# Altium schematic symbol library Safety_Lock.SCHLIB: 42 symbols
Pins are listed as number, name and electrical type; pins without a type are passive.

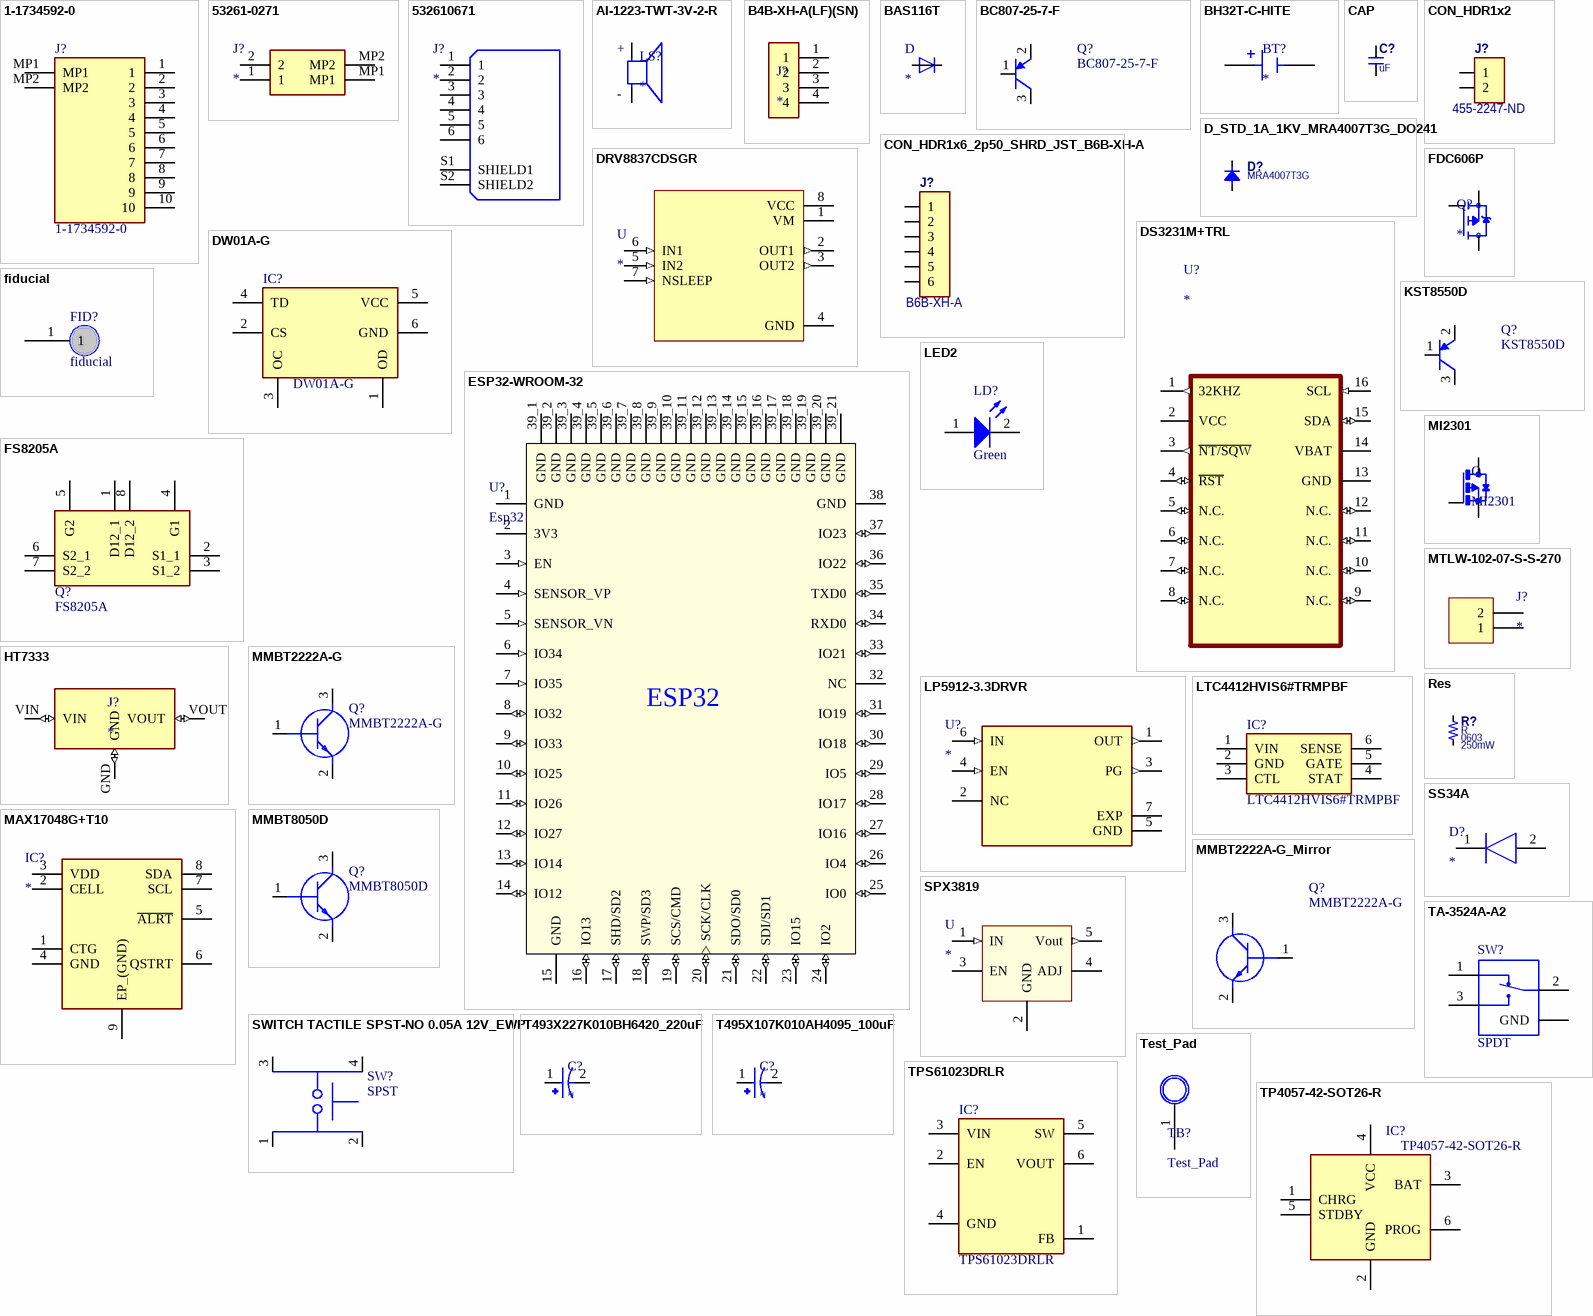
[diagram p0: symbols 1-1734592-0 to TPS61023DRLR]

## 1-1734592-0
designator J?
Connector; Manufacturer_Name: TE Connectivity; Datasheet Link: https://www.te.com/commerce/DocumentDelivery/DDEController?Action=showdoc&DocId=Customer+Drawing%7F1734592%7FC%7Fpdf%7FEnglish%7FENG_CD_1734592_C_C_1734592.pdf%7F1-1734592-8; Height: 2.3mm; Manufacturer_Part_Number: 1-1734592-0; Mouser Part Number: 571-1-1734592-0; Mouser Price/Stock: https://www.mouser.co.uk/ProductDetail/TE-Connectivity/1-1734592-0?qs=sXy4Dx%2FMQpOH8ogf8%2FvwBg%3D%3D; Arrow Part Number: 1-1734592-0; Arrow Price/Stock: https://www.arrow.com/en/products/1-1734592-0/te-connectivity
footprint 117345920
pins: 1, 2, 3, 4, 5, 6, 7, 8, 9, 10, MP1, MP2

## 53261-0271
designator J?
Connector; Manufacturer_Name: Molex; Manufacturer_Part_Number: 53261-0271; Datasheet Link: https://www.molex.com/pdm_docs/sd/532610271_sd.pdf; Height: 3.65mm; Mouser Part Number: 538-53261-0271; Mouser Price/Stock: https://www.mouser.co.uk/ProductDetail/Molex/53261-0271?qs=%252B72YyncTwW%252B8%252BBjraxGf3A%3D%3D; Arrow Part Number: 53261-0271; Arrow Price/Stock: https://www.arrow.com/en/products/53261-0271/molex?region=nac
footprint 532610271
pins: 1, 2, MP1, MP2

## 532610671
designator J?
Conn Shrouded Header (4 Sides) HDR 6 POS 1.25mm Solder RA Side Entry SMD PicoBladeâ„¢ T/R; MF: Molex; MP: 532610671; SnapEDA_Link: https://www.snapeda.com/parts/532610671/Molex/view-part/6379096/?ref=snap; Value: *; Purchase-URL: https://pricing.snapeda.com/search/part/532610671/?ref=eda; Check_prices: https://www.snapeda.com/parts/532610671/Molex/view-part/6379096/?ref=eda; Digi-Key_Part_Number: WM7624CT-ND; Package: None
footprint MOLEX_532610671
pins: 1, 2, 3, 4, 5, 6, S1 SHIELD1, S2 SHIELD2

## AI-1223-TWT-3V-2-R
designator LS?
AUDIO INDICATOR 82 DB 3 VDC 2300 HZ; MF: PUI Audio,; MP: AI-1223-TWT-3V-2-R; SnapEDA_Link: https://www.snapeda.com/parts/AI-1223-TWT-3V-2-R/PUI%20Audio,%20Inc./view-part/548758/?ref=snap; Availability: In Stock; Price: None; Purchase-URL: https://pricing.snapeda.com/search/part/AI-1223-TWT-3V-2-R/?ref=eda; Check_prices: https://www.snapeda.com/parts/AI-1223-TWT-3V-2-R/PUI%20Audio,%20Inc./view-part/548758/?ref=eda; Package: None; Value: *
footprint XDCR_AI-1223-TWT-3V-2-R
pins: N, P
text: +; -

## B4B-XH-A(LF)(SN)
designator J?
Connector Header Through Hole 4 position 0.098 (2.50mm); MF: JST Sales; MP: B4B-XH-A(LF)(SN); Check_prices: https://www.snapeda.com/parts/B4B-XH-A(LF)(SN)/JST%20Sales%20America%20Inc./view-part/447494/?ref=eda; Purchase-URL: https://pricing.snapeda.com/search/part/B4B-XH-A(LF)(SN)/?ref=eda; SnapEDA_Link: https://www.snapeda.com/parts/B4B-XH-A(LF)(SN)/JST%20Sales%20America%20Inc./view-part/447494/?ref=snap; Price: None; Value: *; Package: None; Availability: Warning
footprint JST_B4B-XH-A(LF)(SN)
pins: 1, 2, 3, 4

## BAS116T
designator D
Diode Standard 75V 200mA Surface Mount SC-75, SOT-416; MP: BAS116; MF: NXP Semiconductors; Package: SOT-23-3 NXP Semiconductors; Availability: Bad; SnapEDA_Link: https://www.snapeda.com/parts/BAS116/NXP%20Semiconductors/view-part/188045/?ref=snap; Value: *; Price: None
footprint SOT416
pins: 1 A, 3 K

## BC807-25-7-F
designator Q?
Trans GP BJT PNP 45V 0.5A 350mW Automotive 3-Pin SOT-23 T/R; Manufacturer: Diodes; Max Power Dissipation: 310mW; Max Collector Current: 500mA; Number of Elements: 1; Frequency: 100MHz; Emitter Base Voltage (VEBO): 5V; Collector Emitter Saturation Voltage: -700mV; Element Configuration: Single; Collector-emitter Voltage-Max: 700mV; Supplier 1: Digi-Key; Manufacturer Part Number: BC807-25-7-F; RoHS: Yes; Category: BJTs; Stock 1: 1770; Pricing 1: 1=0.37000, 10=0.30000, 100=0.15890, 500=0.10454, 1000=0.07109 (USD); Mount: Surface Mount; Case/Package: SOT-23; Number of Pins: 3; Weight: 0.000282oz; Contact Plating: Tin,Matte; Min Operating Temperature: -65°C; Max Operating Temperature: 150°C; Collector Emitter Voltage (VCEO): 45V; Packaging: Tape and Reel; Collector Emitter Breakdown Voltage: 45V; Polarity: PNP; Package Quantity: 3000; Transition Frequency: 100MHz; Max Breakdown Voltage: 45V; Power Dissipation: 310mW; Gain Bandwidth Product: 100MHz; Series: -; Length: 3.05mm; Width: 1.4mm; Height: 1mm; REACH SVHC: No SVHC; RoHS Compliant: Yes; Lead Free: Lead Free; ComponentLink1URL: https://datasheet.ciiva.com/6360/ds11208-6360807.pdf?src-supplier=Digi-Key; ComponentLink1Description: https://datasheet.ciiva.com/6360/ds11208-6360807.pdf?src-supplier=Digi-Key; ComponentLink2URL: https://datasheet.ciiva.com/16614/ds11208-16614428.pdf?src-supplier=Avnet+Europe; ComponentLink2Description: https://datasheet.ciiva.com/16614/ds11208-16614428.pdf?src-supplier=Avnet+Europe; Supplier Part Number 1: BC807-25FDICT-ND
footprint SOT95P240X115-3N
pins: 1 Base, 2 Emitter, 3 Collector

## BH32T-C-HITE
designator BT?
GPCR2032 Holder Features high temperature resistant plastic; MP: BH32T-C-HITE; Package: None; Price: None; Value: *; Availability: Unavailable
footprint BAT_BH32T-C-HITE
pins: NEG, POS

## CAP
designator C?, comment uF
CAP; Manufacturer: TDK EPCOS; Manufacturer Part Number: B37941K9105K62; Capacitance: 1uF; Voltage Rating: 16V; Tolerance: 10%; ComponentLink1URL: https://datasheet.ciiva.com/13389/upy-gphc-y5v-6-3v-to-50v-5-13389978.pdf?src-supplier=Mouser; ComponentLink1Description: Datasheet; Supplier 1: Digi-Key; RoHS: Yes; Category: Ceramic Capacitors; Mount: Surface Mount; Case/Package: 0805; Case Code (Metric): 2012; Case Code (Imperial): 0805; Min Operating Temperature: -55°C; Max Operating Temperature: 125°C; Package Quantity: 3000; Packaging: Tape and Reel; Voltage Rating (DC): 16V; Length: 0.079inch; Width: 0.049inch; Height: 1.35mm; Thickness: 0.049inch; Ratings: AEC-Q200; Lead Free: Lead Free; ComponentLink2URL: http://components.arrow.com/part/dataview/0323_01879911?src-supplier=Arrow+Europe; ComponentLink2Description: http://components.arrow.com/part/dataview/0323_01879911?src-supplier=Arrow+Europe; ComponentLink3URL: https://media.digikey.com/pdf/Data%20Sheets/Epcos%20PDFs/B37872K_B37941K_Series.pdf?src-supplier=Digi-Key; ComponentLink3Description: https://media.digikey.com/pdf/Data%20Sheets/Epcos%20PDFs/B37872K_B37941K_Series.pdf?src-supplier=Digi-Key; Supplier Part Number 1: 495-1935-1-ND
footprint 0603-C (Capacitor 0603 Nominal Density)
footprint 0805-C (Capacitor 0805 Nominal Density)
footprint 1206-C (Capacitor 1206 Nominal Density)
pins: 1, 2

## CON_HDR1x2
designator J?, comment 455-2247-ND
ComponentLink1URL: https://www.jst-mfg.com/product/pdf/eng/eXH.pdf; ComponentLink1Description: Datasheet
footprint CON_HDR1x2 (Connector 2-Way 2.50mm Pitch Right Angle Shrouded JST S2B-XH-A)
pins: 1, 2

## CON_HDR1x6_2p50_SHRD_JST_B6B-XH-A
designator J?, comment B6B-XH-A
CONN HEADER VERT 6POS 2.5MM; Manufacturer: JST; Manufacturer Part Number: B6BXHA(LF)(SN); Contact Resistance: 20mR; Current Rating: 3A; Number of Positions: 6; Voltage Rating (AC): 250V; Insulation Resistance: 1GR; Connector Type: Male Pin; Wire/Cable Gauge: 22AWG; ComponentLink4Description: Datasheet; ComponentLink4URL: http://www.jst-mfg.com/product/pdf/eng/eXH.pdf; Supplier 1: Digi-Key; RoHS: Yes; Category: FFC / FPC; Stock 1: 19126; Pricing 1: 1=0.270000, 10=0.258000, 100=0.180800, 500=0.154940, 1000=0.129120, 5000=0.110680, 10000=0.103300 (USD); Mount: Through Hole; Contact Plating: Tin,Lead,Copper; Contact Material: Brass; Color: Natural; Housing Color: White; Housing Material: Polyamide; Min Operating Temperature: -25°C; Max Operating Temperature: 85°C; Termination: Press-Fit; Package Quantity: 500; Packaging: Bulk; Number of Rows: 1; Voltage Rating: 250V; Number of Contacts: 6; Max Current Rating: 3A; Max Voltage Rating (AC): 250V; Max Voltage Rating (DC): 250V; Orientation: Straight; Length: 17.4mm; Depth: 5.75mm; Pitch: 2.5mm; Lead Pitch: 2.5mm; REACH SVHC: No SVHC; Lead Free: Lead Free; Supplier Part Number 1: 455-2271-ND
footprint CON_HDR1x6_2p50_SHRD_JST-B6B-XH-A (Connector 6-Way 2.50mm Pitch Right Angle Shrouded JST-B6B-XH-A)
pins: 1, 2, 3, 4, 5, 6

## D_STD_1A_1KV_MRA4007T3G_DO241
designator D?, comment MRA4007T3G
Diode; Rectifier; Standard; Vr 1000V; If 1A; Pkg SMA; Vf 1.04V; Tj +175degc; Cs 30A; Manufacturer: ON Semiconductor; Forward Voltage: 2V; Max Reverse Current: 10uA; Max Repetitive Reverse Voltage (Vrrm): 1kV; Element Configuration: Single; Supplier 1: Digi-Key; Manufacturer Part Number: MRA4007T3G; RoHS: Yes; Category: Rectifier Diodes; Stock 1: 61431; Pricing 1: 1=0.28000, 10=0.19200, 100=0.09590, 500=0.05858, 1000=0.04260, 2000=0.04047 (USD); Case/Package: SMA; Number of Pins: 2; Contact Plating: Tin,Matte; Min Operating Temperature: -55°C; Max Operating Temperature: 175°C; Package Quantity: 1; Max Surge Current: 30A; Forward Current: 1A; Packaging: Tape and Reel; Average Rectified Current: 1A; Max Forward Surge Current (Ifsm): 30A; Peak Non-Repetitive Surge Current: 30A; Polarity: Standard; Voltage Rating (DC): 1kV; Current Rating: 1A; Output Current: 1A; Max Reverse Voltage (DC): 1kV; Reverse Voltage: 1kV; Length: 4.32mm; Height: 2mm; Width: 2.6mm; Radiation Hardening: No; REACH SVHC: No SVHC; Lead Free: Lead Free; ComponentLink1URL: https://www.onsemi.com/pub/Collateral/MRA4003T3-D.PDF; ComponentLink1Description: Datasheet; Supplier Part Number 1: MRA4007T3GOSCT-ND
footprint D_SMA_DO214AC (Molded Diode, 2-Leads, Body 4.3x2.6mm, IPC Medium Density)
pins: A "Anode", K "Cathode"

## DRV8837CDSGR
designator U
11-V, 1-A H-bridge motor driver 8-WSON -40 to 85; MF: Texas Instruments; MP: DRV8837CDSGR; Mouser-Purchase-URL: https://snapeda.com/shop?store=Mouser&id=617854; Value: *; DigiKey-Purchase-URL: https://snapeda.com/shop?store=DigiKey&id=617854; Package: WSON-8 Texas Instruments; Texas_Instruments-Purchase-URL: https://snapeda.com/shop?store=Texas+Instruments&id=617854; Price: None; SnapEDA_Link: https://www.snapeda.com/parts/DRV8837CDSGR/Texas%20Instruments/view-part/617854/?ref=snap; Availability: Good
footprint SON50P200X200X80-9N
pins: 1 VM (power), 2 OUT1 (out), 3 OUT2 (out), 4 GND (power), 5 IN2 (in), 6 IN1 (in), 7 NSLEEP (in), 8 VCC (power)

## DS3231M+TRL
designator U?
MP: DS3231M+TRL; Package: None; Price: None; Value: *; Availability: Unavailable
footprint SOIC127P1032X265-16N (Footprint not found)
pins: 1 32KHZ (out), 2 VCC (power), 3 ~{NT/SQW} (out), 4 ~{RST} (io), 5 N.C. (io), 6 N.C. (io), 7 N.C. (io), 8 N.C. (io), 9 N.C. (io), 10 N.C. (io), 11 N.C. (io), 12 N.C. (io), 13 GND (power), 14 VBAT (power), 15 SDA (io), 16 SCL (in)

## DW01A-G
designator IC?
Integrated Circuit; Manufacturer_Name: Fortune Semiconductor Corporation; Datasheet Link: http://acoptex.com/uploads/DW01A.pdf; Height: 1.35mm; Manufacturer_Part_Number: DW01A-G
footprint SOT95P280X135-6N
pins: 1 OD, 2 CS, 3 OC, 4 TD, 5 VCC, 6 GND

## ESP32-WROOM-32
designator U?, comment Esp32
Bluetooth, WiFi Transceiver Module 2.4GHz ~ 2.5GHz Surface Mount; MF: Espressif Systems; MP: ESP32-WROOM-32; Package: Module Espressif Systems; Digi-Key_Part_Number: 1904-1010-1-ND; Digi-Key_Purchase_URL: https://www.digikey.com/product-detail/en/espressif-systems/ESP32-WROOM-32/1904-1010-1-ND/8544305?utm_source=snapeda&utm_medium=aggregator&utm_campaign=symbol; Value: *; SnapEDA_Link: https://www.snapeda.com/parts/ESP32-WROOM-32/Espressif%20Systems/view-part/2753322/?ref=snap
footprint MODULE_ESP32-WROOM-32
pins: 1 GND (power), 2 3V3 (power), 3 EN (in), 4 SENSOR_VP (in), 5 SENSOR_VN (in), 6 IO34 (in), 7 IO35 (in), 8 IO32 (io), 9 IO33 (io), 10 IO25 (io), 11 IO26 (io), 12 IO27 (io), 13 IO14 (io), 14 IO12 (io), 15 GND (power), 16 IO13 (io), 17 SHD/SD2 (io), 18 SWP/SD3 (io), 19 SCS/CMD (io), 20 SCK/CLK (io), 21 SDO/SD0 (io), 22 SDI/SD1 (io), 23 IO15 (io), 24 IO2 (io), 25 IO0 (io), 26 IO4 (io), 27 IO16 (io), 28 IO17 (io), 29 IO5 (io), 30 IO18 (io), 31 IO19 (io), 32 NC, 33 IO21 (io), 34 RXD0 (io), 35 TXD0 (io), 36 IO22 (io), 37 IO23 (io), 38 GND (power), 39_1 GND (power), 39_2 GND (power), 39_3 GND (power), 39_4 GND (power), 39_5 GND (power), 39_6 GND (power), 39_7 GND (power), 39_8 GND (power), 39_9 GND (power), 39_10 GND (power), 39_11 GND (power), 39_12 GND (power), 39_13 GND (power), 39_14 GND (power), 39_15 GND (power), 39_16 GND (power), 39_17 GND (power), 39_18 GND (power), 39_19 GND (power), 39_20 GND (power), 39_21 GND (power)
text: ESP32

## FDC606P
designator Q?
P-Channel 12V 6A (Ta) 1.6W (Ta) Surface Mount SuperSOTâ„¢-6; MF: ON Semiconductor; MP: FDC606P; Price: None; Purchase-URL: https://pricing.snapeda.com/search/part/FDC606P/?ref=eda; Value: *; Availability: Good; Check_prices: https://www.snapeda.com/parts/FDC606P/ON%20Semiconductor/view-part/2501971/?ref=eda; SnapEDA_Link: https://www.snapeda.com/parts/FDC606P/ON%20Semiconductor/view-part/2501971/?ref=snap; Package: TSOT-23-6 ON Semiconductor
footprint SUPERSOT-6
pins: 1 D, 2 D, 3 G, 4 S, 5 D, 6 D

## fiducial
designator FID?
footprint Fiducial
pins: 1

## FS8205A
designator Q?
Transistor; Manufacturer_Name: SII Semiconductor; Datasheet Link: http://www.ic-fortune.com/upload/Download/FS8205A-DS-12_EN.pdf; Height: 1.2mm; Manufacturer_Part_Number: FS8205A
footprint SOP65P640X120-8N
pins: 1 D12_1, 2 S1_1, 3 S1_2, 4 G1, 5 G2, 6 S2_1, 7 S2_2, 8 D12_2

## HT7333
designator J?
MF: Holtek Semiconductor; MP: HT7333; Availability: In Stock; Price: None; Package: None; Value: *
footprint SOT89
pins: GND (io), VIN (io), VOUT (io)

## KST8550D
designator Q?
Trans GP BJT PNP 45V 0.5A 350mW Automotive 3-Pin SOT-23 T/R; Manufacturer: Diodes; Max Power Dissipation: 310mW; Max Collector Current: 500mA; Number of Elements: 1; Frequency: 100MHz; Emitter Base Voltage (VEBO): 5V; Collector Emitter Saturation Voltage: -700mV; Element Configuration: Single; Collector-emitter Voltage-Max: 700mV; Supplier 1: Digi-Key; Manufacturer Part Number: KST8550D; RoHS: Yes; Category: BJTs; Stock 1: 1770; Pricing 1: 1=0.37000, 10=0.30000, 100=0.15890, 500=0.10454, 1000=0.07109 (USD); Mount: Surface Mount; Case/Package: SOT-23; Number of Pins: 3; Weight: 0.000282oz; Contact Plating: Tin,Matte; Min Operating Temperature: -65°C; Max Operating Temperature: 150°C; Collector Emitter Voltage (VCEO): 45V; Packaging: Tape and Reel; Collector Emitter Breakdown Voltage: 45V; Polarity: PNP; Package Quantity: 3000; Transition Frequency: 100MHz; Max Breakdown Voltage: 45V; Power Dissipation: 310mW; Gain Bandwidth Product: 100MHz; Series: -; Length: 3.05mm; Width: 1.4mm; Height: 1mm; REACH SVHC: No SVHC; RoHS Compliant: Yes; Lead Free: Lead Free; ComponentLink1URL: https://datasheet.lcsc.com/lcsc/1912111437_KEXIN-KST8550D_C382284.pdf; ComponentLink1Description: https://datasheet.ciiva.com/6360/ds11208-6360807.pdf?src-supplier=Digi-Key; ComponentLink2URL: https://datasheet.lcsc.com/lcsc/1912111437_KEXIN-KST8550D_C382284.pdf; ComponentLink2Description: https://datasheet.ciiva.com/16614/ds11208-16614428.pdf?src-supplier=Avnet+Europe; Supplier Part Number 1: BC807-25FDICT-ND
footprint SOT23
pins: 1 Base, 2 Emitter, 3 Collector

## LED2
designator LD?, comment Green
Typical RED, GREEN, YELLOW, AMBER GaAs LED; Published: 8-Jun-2000; Revision: July-2002: Re-released for DXP Platform.; Publisher: Altium Limited
footprint 0603D
pins: 1 A, 2 K

## LP5912-3.3DRVR
designator U?
500-mA, low-noise, low-IQ, low-dropout voltage regulator with reverse current protection 6-WSON -40 to 125; MP: LP5912-3.3DRVR; MF: Texas Instruments; SnapEDA_Link: https://www.snapeda.com/parts/LP5912-3.3DRVR/Texas%20Instruments/view-part/510369/?ref=snap; Value: *; Texas_Instruments-Purchase-URL: https://snapeda.com/shop?store=Texas+Instruments&id=510369; Package: WSON-6 Texas Instruments; DigiKey-Purchase-URL: https://snapeda.com/shop?store=DigiKey&id=510369; Digi-Key_Part_Number: 296-47214-1-ND; Mouser-Purchase-URL: https://snapeda.com/shop?store=Mouser&id=510369
footprint SON65P200X200X80-7N
pins: 1 OUT (out), 2 NC, 3 PG (out), 4 EN (in), 5 GND (power), 6 IN (in), 7 EXP (power)

## LTC4412HVIS6#TRMPBF
designator IC?
Integrated Circuit; Manufacturer_Name: Linear Technology; Datasheet Link: https://datasheet.datasheetarchive.com/originals/dk/DKDS-14/267243.pdf; Height: 1mm; Manufacturer_Part_Number: LTC4412HVIS6#TRMPBF; Mouser Part Number: 584-C4412HVIS6TRMPBF; Mouser Price/Stock: https://www.mouser.co.uk/ProductDetail/Analog-Devices-Linear-Technology/LTC4412HVIS6TRMPBF?qs=hVkxg5c3xu%2F0qD9zc%2Fd4vw%3D%3D; Arrow Part Number: LTC4412HVIS6#TRMPBF; Arrow Price/Stock: https://www.arrow.com/en/products/ltc4412hvis6trmpbf/linear-technology
footprint SOT95P280X100-6N
pins: 1 VIN, 2 GND, 3 CTL, 4 STAT, 5 GATE, 6 SENSE

## MAX17048G+T10
designator IC?
Integrated Circuit; Manufacturer_Name: Maxim Integrated; Manufacturer_Part_Number: MAX17048G+T10; Datasheet Link: https://datasheets.maximintegrated.com/en/ds/MAX17048-MAX17049.pdf; Height: 0.8mm; Mouser Part Number: 700-MAX17048G+T10; Mouser Price/Stock: https://www.mouser.co.uk/ProductDetail/Maxim-Integrated/MAX17048G%2bT10?qs=D7PJwyCwLAoGnnn8jEPRBQ%3D%3D; Arrow Part Number: MAX17048G+T10; Arrow Price/Stock: https://www.arrow.com/en/products/max17048gt10/maxim-integrated?region=nac
footprint SON50P200X200X80-9N-D (Footprint not found)
pins: 1 CTG, 2 CELL, 3 VDD, 4 GND, 5 ~{ALRT}, 6 QSTRT, 7 SCL, 8 SDA, 9 EP_(GND)

## MI2301
designator Q
Datasheet: http://www.szjuquan.com/upload_files/qb_sell_/pdf/MI2301.pdf; Availability: Unavailable; Price: None; MP: MI2301; Value: *
footprint SOT23
pins: 1 G, 2 S, 3 D

## MMBT2222A-G
designator Q?
Transistor BJT NPN; Manufacturer_Name: Comchip Technology; Datasheet Link: http://www.comchiptech.com/admin/files/product/MMBT2222A-G%20RevB.pdf; Height: 1.15mm; Manufacturer_Part_Number: MMBT2222A-G; Mouser Part Number: 750-MMBT2222A-G; Mouser Price/Stock: https://www.mouser.co.uk/ProductDetail/Comchip-Technology/MMBT2222A-G?qs=2qJf6qQ4IOIM%2FSE9iCL8gQ%3D%3D; Arrow Part Number: MMBT2222A-G; Arrow Price/Stock: https://www.arrow.com/en/products/mmbt2222a-g/comchip-technology
footprint SOT95P240X115-3N
pins: 1 B, 2 E, 3 C

## MMBT2222A-G_Mirror
designator Q?, comment MMBT2222A-G
Transistor BJT NPN; Manufacturer_Name: Comchip Technology; Datasheet Link: http://www.comchiptech.com/admin/files/product/MMBT2222A-G%20RevB.pdf; Height: 1.15mm; Manufacturer_Part_Number: MMBT2222A-G; Mouser Part Number: 750-MMBT2222A-G; Mouser Price/Stock: https://www.mouser.co.uk/ProductDetail/Comchip-Technology/MMBT2222A-G?qs=2qJf6qQ4IOIM%2FSE9iCL8gQ%3D%3D; Arrow Part Number: MMBT2222A-G; Arrow Price/Stock: https://www.arrow.com/en/products/mmbt2222a-g/comchip-technology
footprint SOT95P240X115-3N
pins: 1 B, 2 E, 3 C

## MMBT8050D
designator Q?
Transistor BJT NPN; Manufacturer_Name: Comchip Technology; Datasheet Link: https://datasheet.lcsc.com/lcsc/1912111437_PJSEMI-MMBT8050D_C411762.pdf; Height: 1.15mm; Manufacturer_Part_Number: MMBT8050; Mouser Part Number: MMBT8050; Arrow Part Number: MMBT8050
footprint SOT23
pins: 1 B, 2 E, 3 C

## MTLW-102-07-S-S-270
designator J?
MP: MTLW-102-07-S-S-270; Package: None; Price: None; Value: *; Availability: Unavailable
footprint SAMTEC_MTLW-102-07-S-S-270
pins: 1, 2

## Res
designator R?, comment R  Power Rating: 250mW  Case/Package: 0603
Manufacturer: Panasonic; Manufacturer Part Number: ERJ-8GEYJ621V; Resistance: 620R; Tolerance: 5%; Voltage Rating: 200V; Temperature Coefficient: 200ppm/°C; ComponentLink1URL: https://datasheet.ciiva.com/15193/getdatasheetpartid-366470-15193725.pdf?src-supplier=Verical; ComponentLink1Description: Datasheet; Supplier 1: Avnet; Stock 1: 6255; Pricing 1: 1 = 0.01200 (USD); RoHS: Yes; Mount: Surface Mount; Case Code (Metric): 3216; Case Code (Imperial): 1206; Contact Plating: Tin; Min Operating Temperature: -55°C; Max Operating Temperature: 155°C; Packaging: Tape and Reel; Package Quantity: 1; Resistor Type: Thick Film; Number of Terminations: 2; Max Power Dissipation: 250mW; Voltage Rating (DC): 200V; Features: Automotive AEC-Q200; Series: ERJ; Construction: Rectangular; Resistance Tolerance: 5%; Length: 3.2mm; Width: 0.063inch; Height: 0.028inch; Depth: 1.6mm; Radiation Hardening: No; REACH SVHC: No SVHC; Military Standard: Not; Lead Free: Lead Free; RoHS Compliant: Yes; ComponentLink2URL: https://datasheet.ciiva.com/46387/1500035-46387094.pdf?src-supplier=Element14; ComponentLink2Description: https://datasheet.ciiva.com/46387/1500035-46387094.pdf?src-supplier=Element14; ComponentLink3URL: https://datasheet.ciiva.com/5915/1500035-5915369.pdf?src-supplier=Farnell; ComponentLink3Description: https://datasheet.ciiva.com/5915/1500035-5915369.pdf?src-supplier=Farnell; ComponentLink4URL: https://datasheet.ciiva.com/28677/1678796-28677018.pdf?src-supplier=Element14; ComponentLink4Description: https://datasheet.ciiva.com/28677/1678796-28677018.pdf?src-supplier=Element14; ComponentLink5URL: https://datasheet.ciiva.com/17204/aoa0000ce1-17204972.pdf?src-supplier=Avnet+Europe; ComponentLink5Description: https://datasheet.ciiva.com/17204/aoa0000ce1-17204972.pdf?src-supplier=Avnet+Europe; ComponentLink6URL: https://datasheet.ciiva.com/16515/aoa0000ce1-16515933.pdf?src-supplier=Avnet+Asia; ComponentLink6Description: https://datasheet.ciiva.com/16515/aoa0000ce1-16515933.pdf?src-supplier=Avnet+Asia; Supplier Part Number 1: 65T8955
footprint 0603-R (Resistor 0603 Medium Density)
footprint 0805-R (Resistor 0805 Medium Density)
footprint 1206-R (Resistor 1206 Medium Density)
footprint 1210-R (Resistor 1210 Medium Density)
footprint 2010-R (Resistor 2010 Medium Density)
footprint 2512-R (Resistor 3512 Medium Density)
pins: 1, 2

## SPX3819
designator U
Linear Voltage Regulator IC 1 Output 500mA SOT-23-5; MP: SPX3819; MF: MaxLinear, Inc.; SnapEDA_Link: https://www.snapeda.com/parts/SPX3819/MaxLinear,%20Inc./view-part/885098/?ref=snap; Package: SOT-23-5 MaxLinear, Inc.; Availability: Unavailable; Price: None; Value: *
footprint SOT23-5
pins: 1 IN (in), 2 GND (power), 3 EN, 4 ADJ, 5 Vout (out)

## SS34A
designator D?
Diode; Manufacturer_Name: HY Electronic Corp; Manufacturer_Part_Number: SS34A; Datasheet Link: https://datasheet.datasheetarchive.com/originals/distributors/Datasheets-3/DSA-43252.pdf; Height: 2.62mm
footprint DIOM5026X262N
pins: 1 K, 2 A

## SWITCH TACTILE SPST-NO 0.05A 12V_EWP
designator SW?, comment SPST
E-SWITCH - TL3342F160QG - SWITCH, TACTILE, SPST-NO, 50mA, 12VDC; Manufacturer: SOFNG; Manufacturer Part Number: TS-1187-1816; Actuator Material: Polyphenylene; Mechanical Life: 100000Cycles; Switch Function: Off-Mom; Actuator Type: Standard; Illumination Type: Non-Illuminated; Operating Force: 160gf; Voltage Rating (DC): 12V; Actuator Length: 0.3mm; Supplier 1: Digi-Key; RoHS: Yes; Category: Tactile Switches; Stock 1: 9379; Pricing 1: 1=0.66000, 10=0.63500, 25=0.61120, 100=0.53040, 250=0.48396, 500=0.44974, 1000=0.40329 (USD); Mount: Surface Mount; Contact Plating: Silver; Contact Material: Silver; Throw Configuration: SPST; Packaging: Tape and Reel; Termination: Gull Wing; Current Rating: 50mA; Package Quantity: 3000; Series: TL3342; Orientation: Straight; Electrical Life: 100000Cycles; Max Voltage Rating (DC): 12V; Size: 5.2mm; RoHS Compliant: Yes; ComponentLink1URL: https://datasheet.lcsc.com/lcsc/1809012111_SOFNG-TS-1187-1816_C183614.pdf; ComponentLink1Description: https://datasheet.ciiva.com/2900/tl3342-2900822.pdf?src-supplier=Digi-Key; Supplier Part Number 1: EG2531CT-ND
footprint TL3342F160QG
pins: 1, 2, 3, 4

## T493X227K010BH6420_220uF
designator C?
MP: T493X227K010BH6420; MF: Kemet; Value: *; Package: SMD-2 Kemet; Availability: In Stock; Check_prices: https://www.snapeda.com/parts/T493X227K010BH6420/Kemet/view-part/?ref=eda; SnapEDA_Link: https://www.snapeda.com/parts/T493X227K010BH6420/Kemet/view-part/?ref=snap; Price: None
footprint CAPPM7343X430N
pins: 1, 2

## T495X107K010AH4095_100uF
designator C?
Tantalum Capacitors - Solid SMD 10V 100uF 2917 10% ESR=100mOhms; MP: T495X107K010AH4095; MF: KEMET; Package: SMD-2 Kemet; SnapEDA_Link: https://www.snapeda.com/parts/T495X107K010AH4095/KEMET/view-part/1728815/?ref=snap; Value: *; Availability: Not in stock; Price: None; Check_prices: https://www.snapeda.com/parts/T495X107K010AH4095/KEMET/view-part/1728815/?ref=eda
footprint CAPMP7343X430N
pins: 1, 2

## TA-3524A-A2
designator SW?, comment SPDT
SWITCH SLIDE SPDT 300MA 4V; Manufacturer: Yuandi; Manufacturer Part Number: TA-3524A-A2; Actuator Material: Polymer,Liquid Crystal Polymer; Switch Function: On-On; Contact Resistance: 70mR; Electrical Life: 10000Cycles; Operating Force: 200gf; Switch Travel: 1.5mm; Actuator Type: Standard; RoHS: Yes; Category: Slide Switches; Stock 1: 14727; Pricing 1: 1=1.10000, 10=1.05500, 25=0.99200, 100=0.85700, 250=0.78104, 500=0.72614, 1000=0.67549 (USD); Mount: Surface Mount; Case/Package: SMD/SMT; Contact Material: Copper; Contact Plating: Silver; Min Operating Temperature: -10°C; Max Operating Temperature: 60°C; Voltage Rating (DC): 4V; Throw Configuration: SPDT; Packaging: Tape and Reel; Package Quantity: 1; Contact Current Rating: 300mA; Termination: Gull Wing; Current Rating: 300mA; Max Voltage Rating (DC): 4V; Orientation: Right Angle; Actuator Length: 1.5mm; ComponentLink1URL: https://datasheet.lcsc.com/lcsc/2008242136_Yuandi-TA-3524A-A2_C730331.pdf; ComponentLink1Description: https://datasheet.ciiva.com/5279/ma-micro-slide-30247-5279931.pdf?src-supplier=Mouser
footprint MLL1200S
pins: 1, 2, 3, G1 GND (power), G2 GND (power), G3 GND (power), G4 GND (power)

## Test_Pad
designator TB?
footprint Test_Pad
pins: 1

## TP4057-42-SOT26-R
designator IC?
Integrated Circuit; Manufacturer_Name: Nanjing Extension Microelectronics; Datasheet Link: https://datasheet.lcsc.com/szlcsc/Nanjing-Extension-Microelectronics-TP4057_C12044.pdf; Height: 1.25mm; Manufacturer_Part_Number: TP4057-42-SOT26-R
footprint SOT95P280X125-6N
pins: 1 CHRG, 2 GND, 3 BAT, 4 VCC, 5 STDBY, 6 PROG

## TPS61023DRLR
designator IC?
Integrated Circuit; Manufacturer_Name: Texas Instruments; Datasheet Link: http://www.ti.com/lit/ds/symlink/tps61023.pdf; Height: 0.6mm; Manufacturer_Part_Number: TPS61023DRLR; Mouser Part Number: 595-TPS61023DRLR; Mouser Price/Stock: https://www.mouser.co.uk/ProductDetail/Texas-Instruments/TPS61023DRLR?qs=BJlw7L4Cy7%2FfEnwYuWeGOg%3D%3D; Arrow Part Number: TPS61023DRLR; Arrow Price/Stock: https://www.arrow.com/en/products/tps61023drlr/texas-instruments
footprint SOTFL50P160X60-6N
pins: 1 FB, 2 EN, 3 VIN, 4 GND, 5 SW, 6 VOUT

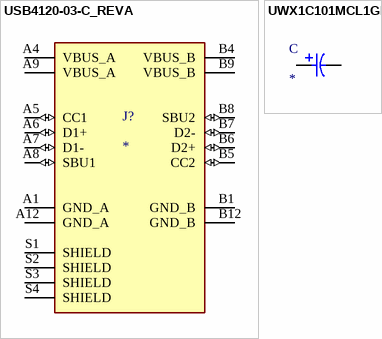
[diagram p1: symbols USB4120-03-C_REVA to UWX1C101MCL1GB]

## USB4120-03-C_REVA
designator J?
MP: USB4120-03-C; MF: Global Connector Technology; SnapEDA_Link: https://www.snapeda.com/parts/USB4120-03-C/Global%20Connector%20Technology/view-part/5160677/?ref=snap; Package: None; Check_prices: https://www.snapeda.com/parts/USB4120-03-C/Global%20Connector%20Technology/view-part/5160677/?ref=eda; Value: *; Availability: Unavailable; Price: None
footprint GCT_USB4120-03-C_REVA
pins: A1 GND_A (power), A4 VBUS_A (power), A5 CC1 (io), A6 D1+ (io), A7 D1- (io), A8 SBU1 (io), A9 VBUS_A (power), A12 GND_A (power), B1 GND_B (power), B4 VBUS_B (power), B5 CC2 (io), B6 D2+ (io), B7 D2- (io), B8 SBU2 (io), B9 VBUS_B (power), B12 GND_B (power), S1 SHIELD, S2 SHIELD, S3 SHIELD, S4 SHIELD

## UWX1C101MCL1GB
designator C
100ÂµF 16V Aluminum Electrolytic Capacitors Radial, Can - SMD 2000 Hrs @ 85Â°C; MF: Nichicon; MP: UWX1C101MCL1GB; Value: *; Availability: Unavailable; Price: None; Package: Radial Nichicon; SnapEDA_Link: https://www.snapeda.com/parts/UWX1C101MCL1GB/Nichicon/view-part/624199/?ref=snap
footprint PCAP_6.3X5.4-ELECT
pins: 1, 2